# Altium schematic symbol library RES_1.1K_0603.SchLib: 1 symbol
Pins are listed as number, name and electrical type; pins without a type are passive.

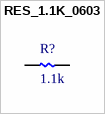
[diagram p0: symbol RES_1.1K_0603]

## RES_1.1K_0603
designator R?, comment 1.1k
SMD Chip Resistor, 0603 [1608 Metric], 1.1 kohm, ERA3A Series, 75 V, Thin Film, 100 mW; Manufacturer: Panasonic; Manufacturer Part Number: ERA-3AEB112V; Resistance: 1.1kR; Tolerance: 0.1%; Temperature Coefficient: 25ppm/°C; Max Power Dissipation: 100mW; Voltage Rating (DC): 75V; RoHS: Yes; Category: Chip SMD Resistors; Stock 1: 43432; Pricing 1: 1=0.31000, 10=0.26000, 100=0.10150, 1000=0.04248, 2500=0.03894 (USD); Mount: Surface Mount; Case/Package: 0603; Number of Pins: 2; Case Code (Metric): 1608; Case Code (Imperial): 0603; Contact Plating: Tin; Min Operating Temperature: -55°C; Max Operating Temperature: 155°C; Packaging: Cut Tape; Resistor Type: Thin Film,Metal Film; Number of Terminations: 2; Series: ERA-3A; Power Rating: 100mW; Voltage Rating: 75V; Package Quantity: 1; Termination: SMD/SMT; Features: Automotive AEC-Q200; Resistance Tolerance: 0.1%; Construction: Rectangular; Technology: THIN FILM; Length: 1.6mm; Width: 0.8mm; Height: 0.45mm; Depth: 0.8mm; Radiation Hardening: No; RoHS Compliant: Yes; Lead Free: Lead Free; REACH SVHC: No SVHC; Military Standard: Not; ComponentLink1URL: https://datasheet.ciiva.com/29183/450769-da-01-en-widerstand-0603-era-29183756.pdf?src-supplier=Conrad; ComponentLink1Description: https://datasheet.ciiva.com/29183/450769-da-01-en-widerstand-0603-era-29183756.pdf?src-supplier=Conrad; ComponentLink2URL: https://datasheet.ciiva.com/9117/aoa0000ce26-9117325.pdf?src-supplier=Avnet; ComponentLink2Description: https://datasheet.ciiva.com/9117/aoa0000ce26-9117325.pdf?src-supplier=Avnet; ComponentLink3URL: https://datasheet.ciiva.com/7891/485442-7891116.pdf?src-supplier=Element14; ComponentLink3Description: https://datasheet.ciiva.com/7891/485442-7891116.pdf?src-supplier=Element14; ComponentLink4URL: https://datasheet.ciiva.com/16772/70068849-16772075.pdf?src-supplier=Allied+Electronics; ComponentLink4Description: https://datasheet.ciiva.com/16772/70068849-16772075.pdf?src-supplier=Allied+Electronics; ComponentLink5URL: https://datasheet.ciiva.com/17215/aoa0000ce26-17215101.pdf?src-supplier=Avnet+Europe; ComponentLink5Description: https://datasheet.ciiva.com/17215/aoa0000ce26-17215101.pdf?src-supplier=Avnet+Europe; ComponentLink6URL: https://datasheet.ciiva.com/7891/485442-7891117.pdf?src-supplier=Element14; ComponentLink6Description: https://datasheet.ciiva.com/7891/485442-7891117.pdf?src-supplier=Element14; ComponentLink7URL: https://datasheet.ciiva.com/22736/1776116-22736472.pdf?src-supplier=Element14; ComponentLink7Description: https://datasheet.ciiva.com/22736/1776116-22736472.pdf?src-supplier=Element14; Supplier 1: Digi-Key; Supplier Part Number 1: 541-1.10KCCT-ND
footprint RES_1.1K_0603
pins: 1, 2